# EAGLE library part 61802525123 (library 61802525123)
Wurth Elektronik 618 Series 2.77 mm, 2.84 mm Pitch 25 Way Straight Through Hole Mount PCB D-sub Connector, Socket Source: Datasheet <https://componentsearchengine.com/Datasheets/1/61802525123.pdf>
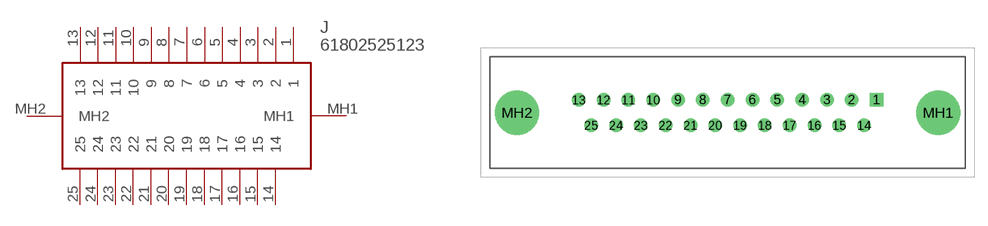
[diagram p0: symbol with the pads of 61802525123; footprint 61802525123]

Designator prefix J

## 61802525123 (Description: Wurth Elektronik 618 Series 2.77 mm, 2.84 mm Pitch 25 Way Straight Through Hole Mount PCB D-sub Connector, Socket; Height: 11.05mm; Manufacturer_Name: Wurth Elektronik; Manufacturer_Part_Number: 61802525123; Mouser_Part_Number: 710-61802525123; Mouser_Price-Stock: https://www.mouser.co.uk/ProductDetail/Wurth-Elektronik/61802525123?qs=ZtY9WdtwX57NPP3pCOssIQ%3D%3D)  [61802525123]
1  1
2  2
3  3
4  4
5  5
6  6
7  7
8  8
9  9
10  10
11  11
12  12
13  13
14  14
15  15
16  16
17  17
18  18
19  19
20  20
21  21
22  22
23  23
24  24
25  25
MH1  MH1
MH2  MH2

## Footprint 61802525123 (pad centres in mm)
61802525123-2
drill 1 pad 1.5 square: 1 0,0
drill 1 pad 1.5: 2 -2.77,0; 3 -5.54,0; 4 -8.31,0; 5 -11.08,0; 6 -13.85,0; 7 -16.62,0; 8 -19.39,0; 9 -22.16,0; 10 -24.93,0; 11 -27.7,0; 12 -30.47,0; 13 -33.24,0; 14 -1.385,-2.84; 15 -4.155,-2.84; 16 -6.925,-2.84; 17 -9.695,-2.84; 18 -12.465,-2.84; 19 -15.235,-2.84; 20 -18.005,-2.84; 21 -20.775,-2.84; 22 -23.545,-2.84; 23 -26.315,-2.84; 24 -29.085,-2.84; 25 -31.855,-2.84
drill 3.3 pad 4.95: MH1 6.9,-1.42; MH2 -40.14,-1.42